# Altium schematic symbol library MS-Electronic.SchLib: 368 symbols (part 4 of 4)
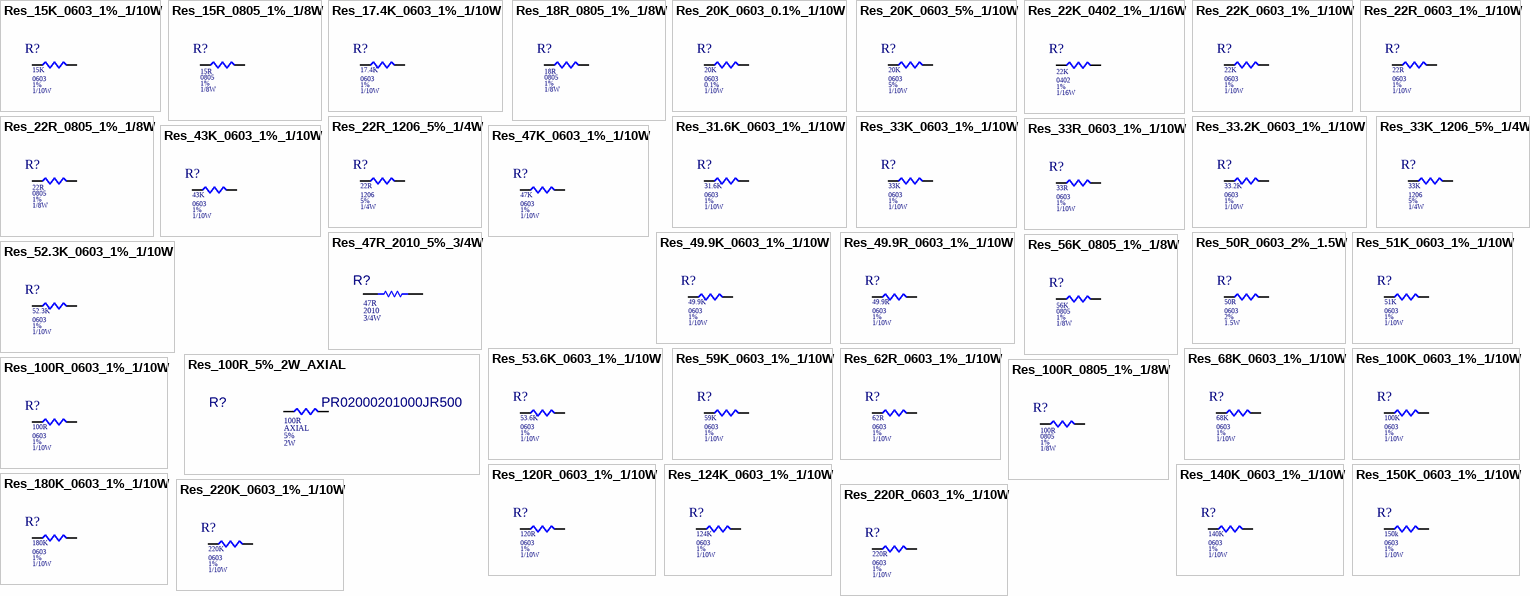
[diagram p14: symbols Res_15K_0603_1%_1/10W to Res_220R_0603_1%_1/10W]

## Res_20K_0603_0.1%_1/10W
designator R?, comment value 20K  Power: 1/10W  Pakage: 0603  Tolerance: 0.1%  (hidden comment: RT0603BRD0720KL)
RES SMD 20K OHM 0.1% 1/10W 0603; ComponentLink1Description: DIGIKEY; ComponentLink1URL: https://www.digikey.bg/en/products/detail/yageo/RT0603BRD0720KL/1072350?s=N4IgTCBcDaIEoBUAMA2JBmAQnAIkg7GEgNIAyIAugL5A
footprint RESC1608X05N (Chip Resistor, 2-Leads, Body 1.60x0.80mm (0603))
pins: 1, 2

## Res_20K_0603_5%_1/10W
designator R?, comment value 20K  Power: 1/10W  Package: 0603  Tolerance: 5%  (hidden comment: CRCW060320K0JNEAC)
RES 20K OHM 5% 1/10W 0603; ComponentLink2Description: CXT; ComponentLink2URL: https://linhkien.cxtvn.com/5973-dien-tro-0603-1-thong-so-tu-1k-den-91k.html; ComponentLink3Description: DIGIKEY; ComponentLink3URL: https://www.digikey.bg/en/products/detail/vishay-dale/CRCW060320K0JNEAC/7925426?s=N4IgTCBcDaIMICU4HUAMA2VBmMqDSqAUgHICiAgnCALoC%2BQA
footprint RESC1608X05N (Chip Resistor, 2-Leads, Body 1.60x0.80mm (0603))
pins: 1, 2

## Res_22K_0402_1%_1/16W
designator R?, comment value 22K  Power: 1/16W  Tolerance: 1%  Pakage: 0402  (hidden comment: RC0402FR-0722KL)
RES 22K OHM 1% 1/16W 0402; ComponentLink1Description: CXT; ComponentLink1URL: https://linhkien.cxtvn.com/7738-dien-tro-0402-1-thong-so-tu-1k-den-91k.html; ComponentLink2Description: DIGIKEY; ComponentLink2URL: https://www.digikey.bg/en/products/detail/yageo/RC0402FR-0722KL/726561?s=N4IgTCBcDaIEoGEAMAWJYBicC0SDsYYA0gDIgC6AvkA
footprint RES_0402
pins: 1, 2

## Res_22K_0603_1%_1/10W
designator R?, comment value 22K  Power: 1/10W  Package: 0603  Tolerance: 1%  (hidden comment: RK73H1JTTD2202F)
RES 22K OHM 1% 1/10W 0603; ComponentLink2Description: CXT; ComponentLink2URL: https://linhkien.cxtvn.com/3650-dien-tro-0603-1-thong-so-tu-1k-den-91k.html; ComponentLink3Description: DIGIKEY; ComponentLink3URL: https://www.digikey.bg/en/products/detail/koa-speer-electronics-inc/RK73H1JTTD2202F/9844886
footprint RESC1608X05N (Chip Resistor, 2-Leads, Body 1.60x0.80mm (0603))
pins: 1, 2

## Res_22R_0603_1%_1/10W
designator R?, comment value 22R  Power: 1/10W  Pakage: 0603  Tolerance: 1%  (hidden comment: RMCF0603FT22R0)
RES 22 OHM 1% 1/10W 0603; ComponentLink1Description: CXT; ComponentLink1URL: https://linhkien.cxtvn.com/4435-dien-tro-0603-1-thong-so-tu-0r-den-910r.html; ComponentLink2Description: DIGIKEY; ComponentLink2URL: https://www.digikey.bg/en/products/detail/stackpole-electronics-inc/RMCF0603FT22R0/1760726
footprint RESC1608X05N (Chip Resistor, 2-Leads, Body 1.60x0.80mm (0603))
pins: 1, 2

## Res_22R_0805_1%_1/8W
designator R?, comment value 22R  Tolerance: 1%  Power: 1/8W  Package: 0805  (hidden comment: RMCF0805FT22R0)
RES 22 OHM 1% 1/8W 0805; ComponentLink1Description: BLK; ComponentLink1URL: https://banlinhkien.com/tro-0805-1-22r-50c-p20821304.html; ComponentLink2Description: DIGIKEY; ComponentLink2URL: https://www.digikey.com/en/products/detail/stackpole-electronics-inc/RMCF0805FT22R0/1712862
footprint Res_0805
pins: 1, 2

## Res_22R_1206_5%_1/4W
designator R?, comment value 22R  Power: 1/4W  Pakage: 1206  Tolerance: 5%  (hidden comment: RC1206JR-0722RL)
RES 22 OHM 5% 1/4W 1206; ComponentLink1Description: CXT; ComponentLink1URL: https://linhkien.cxtvn.com/4214-dien-tro-1206-1-thong-so-tu-0r-den-910r.html; ComponentLink2Description: DIGIKEY; ComponentLink2URL: https://www.digikey.bg/en/products/detail/yageo/RC1206JR-0722RL/729253
footprint Res_1206
pins: 1, 2

## Res_31.6K_0603_1%_1/10W
designator R?, comment value 31.6K  Power: 1/10W  Package: 0603  Tolerance: 1%  (hidden comment: RMCF0603FT31K6)
RES 31.6K OHM 1% 1/10W 0603; ComponentLink1Description: CXT; ComponentLink1URL: https://linhkien.cxtvn.com/6107-dien-tro-0603-1-thong-so-tu-1k-den-91k.html; ComponentLink2Description: DIGIKEY; ComponentLink2URL: https://www.digikey.bg/en/products/detail/yageo/RC0603FR-07560RL/727304
footprint RESC1608X05N (Chip Resistor, 2-Leads, Body 1.60x0.80mm (0603))
pins: 1, 2

## Res_33.2K_0603_1%_1/10W
designator R?, comment value 33.2K  Power: 1/10W  Pakage: 0603  Tolerance: 1%  (hidden comment: RC0603FR-1333K2L)
RES 33.2K OHM 1% 1/10W 0603; ComponentLink1Description: CXT; ComponentLink1URL: https://linhkien.cxtvn.com/4794-dien-tro-0603-1-thong-so-tu-1k-den-91k.html; ComponentLink2Description: DIGIKEY; ComponentLink2URL: https://www.digikey.bg/en/products/detail/yageo/RC0603FR-1333K2L/14286664
footprint RESC1608X05N (Chip Resistor, 2-Leads, Body 1.60x0.80mm (0603))
pins: 1, 2

## Res_33K_0603_1%_1/10W
designator R?, comment value 33K  Power: 1/10W  Package: 0603  Tolerance: 1%  (hidden comment: RC0603FR-0733KL)
RES 33K OHM 1% 1/10W 0603; ComponentLink1Description: CXT; ComponentLink1URL: https://linhkien.cxtvn.com/8763-dien-tro-0603-1-thong-so-tu-1k-den-91k.html; ComponentLink2Description: DIGIKEY; ComponentLink2URL: https://www.digikey.com/en/products/detail/yageo/RC0603FR-0733KL/727159
footprint RESC1608X05N (Chip Resistor, 2-Leads, Body 1.60x0.80mm (0603))
pins: 1, 2

## Res_33K_1206_5%_1/4W
designator R?, comment value 33K  Power: 1/4W  Pakage: 1206  Tolerance: 5%  (hidden comment: RC1206JR-0733KL)
RES 33K OHM 5% 1/4W 1206; ComponentLink1Description: BLK; ComponentLink1URL: https://banlinhkien.com/tro-1206-5-33k-50c-p6650177.html; ComponentLink2Description: DIGIKEY; ComponentLink2URL: https://www.digikey.bg/en/products/detail/yageo/RC1206JR-0733KL/729282
footprint Res_1206
pins: 1, 2

## Res_33R_0603_1%_1/10W
designator R?, comment value 33R  Power: 1/10W  Package: 0603  Tolerance: 1%  (hidden comment: 0603WAF330JT5E)
RES 33 OHM 1% 1/10W 0603; ComponentLink1Description: CXT; ComponentLink1URL: https://linhkien.cxtvn.com/5969-dien-tro-0603-1-thong-so-tu-0r-den-910r.html; ComponentLink2Description: DIGIKEY; ComponentLink2URL: https://www.mouser.vn/ProductDetail/Royalohm/0603WAF330JT5E?qs=e8oIoAS2J1RitKiKgULsBA%3D%3D
footprint RESC1608X05N (Chip Resistor, 2-Leads, Body 1.60x0.80mm (0603))
pins: 1, 2

## Res_43K_0603_1%_1/10W
designator R?, comment value 43K  Power: 1/10W  Pakage: 0603  Tolerance: 1%  (hidden comment: RC0603FR-0743KL)
RES 43K OHM 1% 1/10W 0603; ComponentLink1Description: CXT; ComponentLink1URL: https://linhkien.cxtvn.com/11304-dien-tro-0603-1-thong-so-tu-1k-den-91k.html; ComponentLink2Description: DIGIKEY; ComponentLink2URL: https://www.digikey.com/en/products/detail/yageo/RC0603FR-0743KL/727233
footprint RESC1608X05N (Chip Resistor, 2-Leads, Body 1.60x0.80mm (0603))
pins: 1, 2

## Res_47K_0603_1%_1/10W
designator R?, comment value 47K  Power: 1/10W  Pakage: 0603  Tolerance: 1%  (hidden comment: RC0603FR-0747KL)
RES 47K OHM 1% 1/10W 0603; ComponentLink1Description: CXT; ComponentLink1URL: https://linhkien.cxtvn.com/4437-dien-tro-0603-1-thong-so-tu-1k-den-91k.html; ComponentLink2Description: DIGIKEY; ComponentLink2URL: https://www.digikey.com/en/products/detail/yageo/RC0603FR-0747KL/727253
footprint RESC1608X05N (Chip Resistor, 2-Leads, Body 1.60x0.80mm (0603))
pins: 1, 2

## Res_47R_2010_5%_3/4W
designator R?, comment Parameter 3: 3/4W  Parameter 2: 2010  Parameter 1: 47R  (hidden comment: MR20X470 JTL)
RES SMD 47 OHM 5% 3/4W 2010; Manufacturer: Panasonic Electronic Components; Part Code: S1100-000178; Description SEL: RES 47 OHM 5% 3/4W 2010; Point: 2; Value: 47Ohm; Part Number: MR20X470 JTL; Footprint Type: SMD
footprint RESC5025X70N
pins: 1, 2

## Res_49.9K_0603_1%_1/10W
designator R?, comment value 49.9K  Power: 1/10W  Package: 0603  Tolerance: 1%  (hidden comment: RMCF0603FT49K9)
RES 49.9K OHM 1% 1/10W 0603; ComponentLink1Description: CXT; ComponentLink1URL: https://linhkien.cxtvn.com/4499-dien-tro-0603-1-thong-so-tu-1k-den-91k.html; ComponentLink2Description: DIGIKEY; ComponentLink2URL: https://www.digikey.com/en/products/detail/stackpole-electronics-inc/RMCF0603FT49K9/1760907
footprint RESC1608X05N (Chip Resistor, 2-Leads, Body 1.60x0.80mm (0603))
pins: 1, 2

## Res_49.9R_0603_1%_1/10W
designator R?, comment value 49.9R  Power: 1/10W  Package: 0603  Tolerance: 1%  (hidden comment: RC0603FR-0749R9L)
RES 49.9 OHM 1% 1/10W 0603; ComponentLink1Description: CXT; ComponentLink1URL: https://linhkien.cxtvn.com/2395-dien-tro-0603-1-thong-so-tu-0r-den-910r.html; ComponentLink2Description: DIGIKEY; ComponentLink2URL: https://www.digikey.com/en/products/detail/yageo/RC0603FR-0749R9L/727264
footprint RESC1608X05N (Chip Resistor, 2-Leads, Body 1.60x0.80mm (0603))
pins: 1, 2

## Res_50R_0603_2%_1.5W
designator R?, comment value 50R  Power: 1.5W  Pakage: 0603  Tolerance: 2%  (hidden comment: RCP0603W50R0GEB)
RES SMD 50 OHM 2% 1.5W 0603; ComponentLink1Description: TGIC; ComponentLink1URL: https://www.thegioiic.com/dien-tro-50-ohm-0603-5-; ComponentLink2Description: DIGIKEY; ComponentLink2URL: https://www.digikey.com/en/products/detail/vishay-dale/RCP0603W50R0GEB/5481869
footprint RESC1608X05N (Chip Resistor, 2-Leads, Body 1.60x0.80mm (0603))
pins: 1, 2

## Res_51K_0603_1%_1/10W
designator R?, comment value 51K  Power: 1/10W  Package: 0603  Tolerance: 1%  (hidden comment: RC0603FR-0751KL)
RES 51K OHM 1% 1/10W 0603; ComponentLink2Description: CXT; ComponentLink2URL: https://linhkien.cxtvn.com/7715-dien-tro-0603-1-thong-so-tu-1k-den-91k.html; ComponentLink3Description: DIGIKEY; ComponentLink3URL: https://www.digikey.bg/en/products/detail/yageo/RC0603FR-0751KL/727282
footprint RESC1608X05N (Chip Resistor, 2-Leads, Body 1.60x0.80mm (0603))
pins: 1, 2

## Res_52.3K_0603_1%_1/10W
designator R?, comment value 52.3K  Power: 1/10W  Package: 0603  Tolerance: 1%  (hidden comment: RMCF0603FT52K3)
RES 52.3K OHM 1% 1/10W 0603; ComponentLink1Description: CXT; ComponentLink1URL: https://linhkien.cxtvn.com/4828-dien-tro-0603-1-thong-so-tu-1k-den-91k.html; ComponentLink2Description: DIGIKEY; ComponentLink2URL: https://www.digikey.com/en/products/detail/stackpole-electronics-inc/RMCF0603FT52K3/1714113
footprint RESC1608X05N (Chip Resistor, 2-Leads, Body 1.60x0.80mm (0603))
pins: 1, 2

## Res_53.6K_0603_1%_1/10W
designator R?, comment value 53.6K  Power: 1/10W  Package: 0603  Tolerance: 1%  (hidden comment: RMCF0603FT53K6)
RES 53.6K OHM 1% 1/10W 0603; ComponentLink2Description: New link 1; ComponentLink2URL: https://www.digikey.com/en/products/detail/stackpole-electronics-inc/RMCF0603FT53K6/1760885
footprint RESC1608X05N (Chip Resistor, 2-Leads, Body 1.60x0.80mm (0603))
pins: 1, 2

## Res_56K_0805_1%_1/8W
designator R?, comment value 56K  Tolerance: 1%  Power: 1/8W  Package: 0805  (hidden comment: CRCW080556K0FKEA)
RES SMD 56K OHM 1% 1/8W 0805; ComponentLink1Description: CXT; ComponentLink1URL: https://linhkien.cxtvn.com/5956-dien-tro-0805-1-thong-so-tu-1k-den-91k.html; ComponentLink2Description: DIGIKEY; ComponentLink2URL: https://www.digikey.bg/en/products/detail/vishay-dale/CRCW080556K0FKEA/1175836
footprint Res_0805
pins: 1, 2

## Res_59K_0603_1%_1/10W
designator R?, comment value 59K  Power: 1/10W  Package: 0603  Tolerance: 1%  (hidden comment: RMCF0603FT59K0)
RES 59K OHM 1% 1/10W 0603; ComponentLink2Description: CXT; ComponentLink2URL: https://linhkien.cxtvn.com/6097-dien-tro-0603-1-thong-so-tu-1k-den-91k.html; ComponentLink3Description: DIGIKEY; ComponentLink3URL: https://www.digikey.com/en/products/detail/stackpole-electronics-inc/RMCF0603FT59K0/1760782
footprint RESC1608X05N (Chip Resistor, 2-Leads, Body 1.60x0.80mm (0603))
pins: 1, 2

## Res_62R_0603_1%_1/10W
designator R?, comment value 62R  Power: 1/10W  Pakage: 0603  Tolerance: 1%  (hidden comment: RMCF0603FT62R0)
RES 62 OHM 1% 1/10W 0603; ComponentLink1Description: LKCL; ComponentLink1URL: https://linhkienchatluong.vn/dien-tro-dan-0603-116w-1/dien-tro-dan-0603-62r-1-50c_sp836_ct8416.aspx; ComponentLink2Description: DIGIKEY; ComponentLink2URL: https://www.digikey.bg/en/products/detail/stackpole-electronics-inc/RMCF0603FT62R0/1760778
footprint RESC1608X05N (Chip Resistor, 2-Leads, Body 1.60x0.80mm (0603))
pins: 1, 2

## Res_68K_0603_1%_1/10W
designator R?, comment value 68K  Power: 1/10W  Pakage: 0603  Tolerance: 1%  (hidden comment: RMCF0603FT68K0)
RES 68K OHM 1% 1/10W 0603; ComponentLink1Description: LKD; ComponentLink1URL: https://banlinhkiendientu.com/dien-tro-dan-0603-68k-1-day-50c/; ComponentLink2Description: DIGIKEY; ComponentLink2URL: https://www.digikey.com/en/products/detail/stackpole-electronics-inc/RMCF0603FT68K0/1760882
footprint RESC1608X05N (Chip Resistor, 2-Leads, Body 1.60x0.80mm (0603))
pins: 1, 2

## Res_100K_0603_1%_1/10W
designator R?, comment value 100K  Power: 1/10W  Package: 0603  Tolerance: 1%  (hidden comment: 0603WAF1003T5E)
RES 100K OHM 1% 1/10W 0603; ComponentLink1Description: CXT; ComponentLink1URL: https://linhkien.cxtvn.com/1423-dien-tro-0603-1-thong-so-tu-100k-den-910k.html; ComponentLink2Description: MOUSER; ComponentLink2URL: https://www.mouser.vn/ProductDetail/Royalohm/0603WAF1003T5E?qs=e8oIoAS2J1SaaY9MznAX1w%3D%3D
footprint RESC1608X05N (Chip Resistor, 2-Leads, Body 1.60x0.80mm (0603))
pins: 1, 2

## Res_100R_5%_2W_AXIAL
designator R?, comment PR02000201000JR500  value 100R  Power: 2W  Tolerance: 5%  Package: AXIAL
RES 100 OHM 5% 2W AXIAL; Manufacturer: VISHAY; Part Code: S1100-000186; Description SEL: RES 100 OHM 2W 5% AXIAL; Point: 2; Part Number: PR02000201000JR500; Footprint Type: TH; ComponentLink1Description: DIGIKEY; ComponentLink1URL: https://www.digikey.com/en/products/detail/vishay-beyschlag-draloric-bc-components/PR02000201000JR500/596105
footprint RES_100R_5%_2W_AXIAL
pins: 1, 2

## Res_100R_0603_1%_1/10W
designator R?, comment value 100R  Power: 1/10W  Package: 0603  Tolerance: 1%  (hidden comment: RC0603FR-07100RL)
RES 100 OHM 1% 1/10W 0603; ComponentLink1Description: CXT; ComponentLink1URL: https://linhkien.cxtvn.com/2393-dien-tro-0603-1-thong-so-tu-0r-den-910r.html; ComponentLink2Description: DIGIKEY; ComponentLink2URL: https://www.digikey.com/en/products/detail/yageo/RC0603FR-07100RL/726888
footprint RESC1608X05N (Chip Resistor, 2-Leads, Body 1.60x0.80mm (0603))
pins: 1, 2

## Res_100R_0805_1%_1/8W
designator R?, comment value 100R  Tolerance: 1%  Power: 1/8W  Package: 0805  (hidden comment: WR08X1000FTL)
RES 100 OHM 1% 1/8W 0805; ComponentLink1Description: CXT; ComponentLink1URL: https://linhkien.cxtvn.com/2343-dien-tro-0805-1-thong-so-tu-0r-den-910r.html; ComponentLink2Description: DIGIKEY; ComponentLink2URL: https://www.digikey.bg/en/products/detail/walsin-technology-corporation/WR08X1000FTL/13241877?s=N4IgTCBcDaIOoCUAMAOAGgRidgYgFQBkQBdAXyA
footprint Res_0805
pins: 1, 2

## Res_120R_0603_1%_1/10W
designator R?, comment value 120R  Power: 1/10W  Package: 0603  Tolerance: 1%  (hidden comment: RC0603FR-07120RL)
RES 120 OHM 1% 1/10W 0603; ComponentLink1Description: CXT; ComponentLink1URL: https://linhkien.cxtvn.com/3447-dien-tro-0603-1-thong-so-tu-0r-den-910r.html; ComponentLink2Description: DIGIKEY; ComponentLink2URL: https://www.digikey.com/en/products/detail/yageo/RC0603FR-07120RL/726920?s=N4IgTCBcDaIEoGEAMA2JBmAYnAtEg7AIxhJwAyIAugL5A
footprint RESC1608X05N (Chip Resistor, 2-Leads, Body 1.60x0.80mm (0603))
pins: 1, 2

## Res_124K_0603_1%_1/10W
designator R?, comment value 124K  Power: 1/10W  Pakage: 0603  Tolerance: 1%  (hidden comment: RC0603FR-07124KL)
RES 124K OHM 1% 1/10W 0603; ComponentLink2Description: DIGIKEY; ComponentLink2URL: https://www.digikey.bg/en/products/detail/yageo/RC0603FR-07124KL/726925
footprint RESC1608X05N (Chip Resistor, 2-Leads, Body 1.60x0.80mm (0603))
pins: 1, 2

## Res_140K_0603_1%_1/10W
designator R?, comment value 140K  Power: 1/10W  Pakage: 0603  Tolerance: 1%  (hidden comment: RC0603FR-07140KL)
RES 140K OHM 1% 1/10W 0603; ComponentLink1Description: CXT; ComponentLink2Description: DIGIKEY; ComponentLink2URL: https://www.digikey.bg/en/products/detail/yageo/RC0603FR-07140KL/726947
footprint RESC1608X05N (Chip Resistor, 2-Leads, Body 1.60x0.80mm (0603))
pins: 1, 2

## Res_150K_0603_1%_1/10W
designator R?, comment value 150k  Power: 1/10W  Pakage: 0603  Tolerance: 1%  (hidden comment: RMCF0603FT150K)
RES 150K OHM 1% 1/10W 0603; ComponentLink1Description: CXT; ComponentLink1URL: https://linhkien.cxtvn.com/9710-dien-tro-0603-1-thong-so-tu-100k-den-910k.html; ComponentLink2Description: DIGIKEY; ComponentLink2URL: https://www.digikey.com/en/products/detail/stackpole-electronics-inc/RMCF0603FT150K/1761318
footprint RESC1608X05N (Chip Resistor, 2-Leads, Body 1.60x0.80mm (0603))
pins: 1, 2

## Res_180K_0603_1%_1/10W
designator R?, comment value 180K  Power: 1/10W  Pakage: 0603  Tolerance: 1%  (hidden comment: RC0603FR-10180KL)
RES 180K OHM 1% 1/10W 0603; ComponentLink1Description: CXT; ComponentLink1URL: https://linhkien.cxtvn.com/5273-dien-tro-0603-1-thong-so-tu-100k-den-910k.html; ComponentLink2Description: DIGIKEY; ComponentLink2URL: https://www.digikey.bg/en/products/detail/yageo/RC0603FR-10180KL/14008354
footprint RESC1608X05N (Chip Resistor, 2-Leads, Body 1.60x0.80mm (0603))
pins: 1, 2

## Res_220K_0603_1%_1/10W
designator R?, comment value 220K  Power: 1/10W  Pakage: 0603  Tolerance: 1%  (hidden comment: MCT06030C2203FP500)
RES 220K OHM 1% 1/10W 0603; ComponentLink1Description: CXT; ComponentLink1URL: https://linhkienchatluong.vn/dien-tro-dan-0603-116w-1/dien-tro-dan-0603-220k-1-50c_sp836_ct8914.aspx; ComponentLink2Description: DIGIKEY; ComponentLink2URL: https://www.digikey.bg/en/products/detail/vishay-beyschlag-draloric-bc-components/MCT06030C2203FP500/2800760?s=N4IgTCBcDaILIGEAqAGAbCgzChYxYDEAFAVhRRAF0BfIA
footprint RESC1608X05N (Chip Resistor, 2-Leads, Body 1.60x0.80mm (0603))
pins: 1, 2

## Res_220R_0603_1%_1/10W
designator R?, comment value 220R  Power: 1/10W  Package: 0603  Tolerance: 1%  (hidden comment: RMCF0603FT220R)
RES 220 OHM 1% 1/10W 0603; ComponentLink1Description: CXT; ComponentLink1URL: https://linhkien.cxtvn.com/2885-dien-tro-0603-1-thong-so-tu-0r-den-910r.html; ComponentLink2Description: DIGIKEY; ComponentLink2URL: https://www.digikey.bg/en/products/detail/stackpole-electronics-inc/RMCF0603FT220R/1760809
footprint RESC1608X05N (Chip Resistor, 2-Leads, Body 1.60x0.80mm (0603))
pins: 1, 2

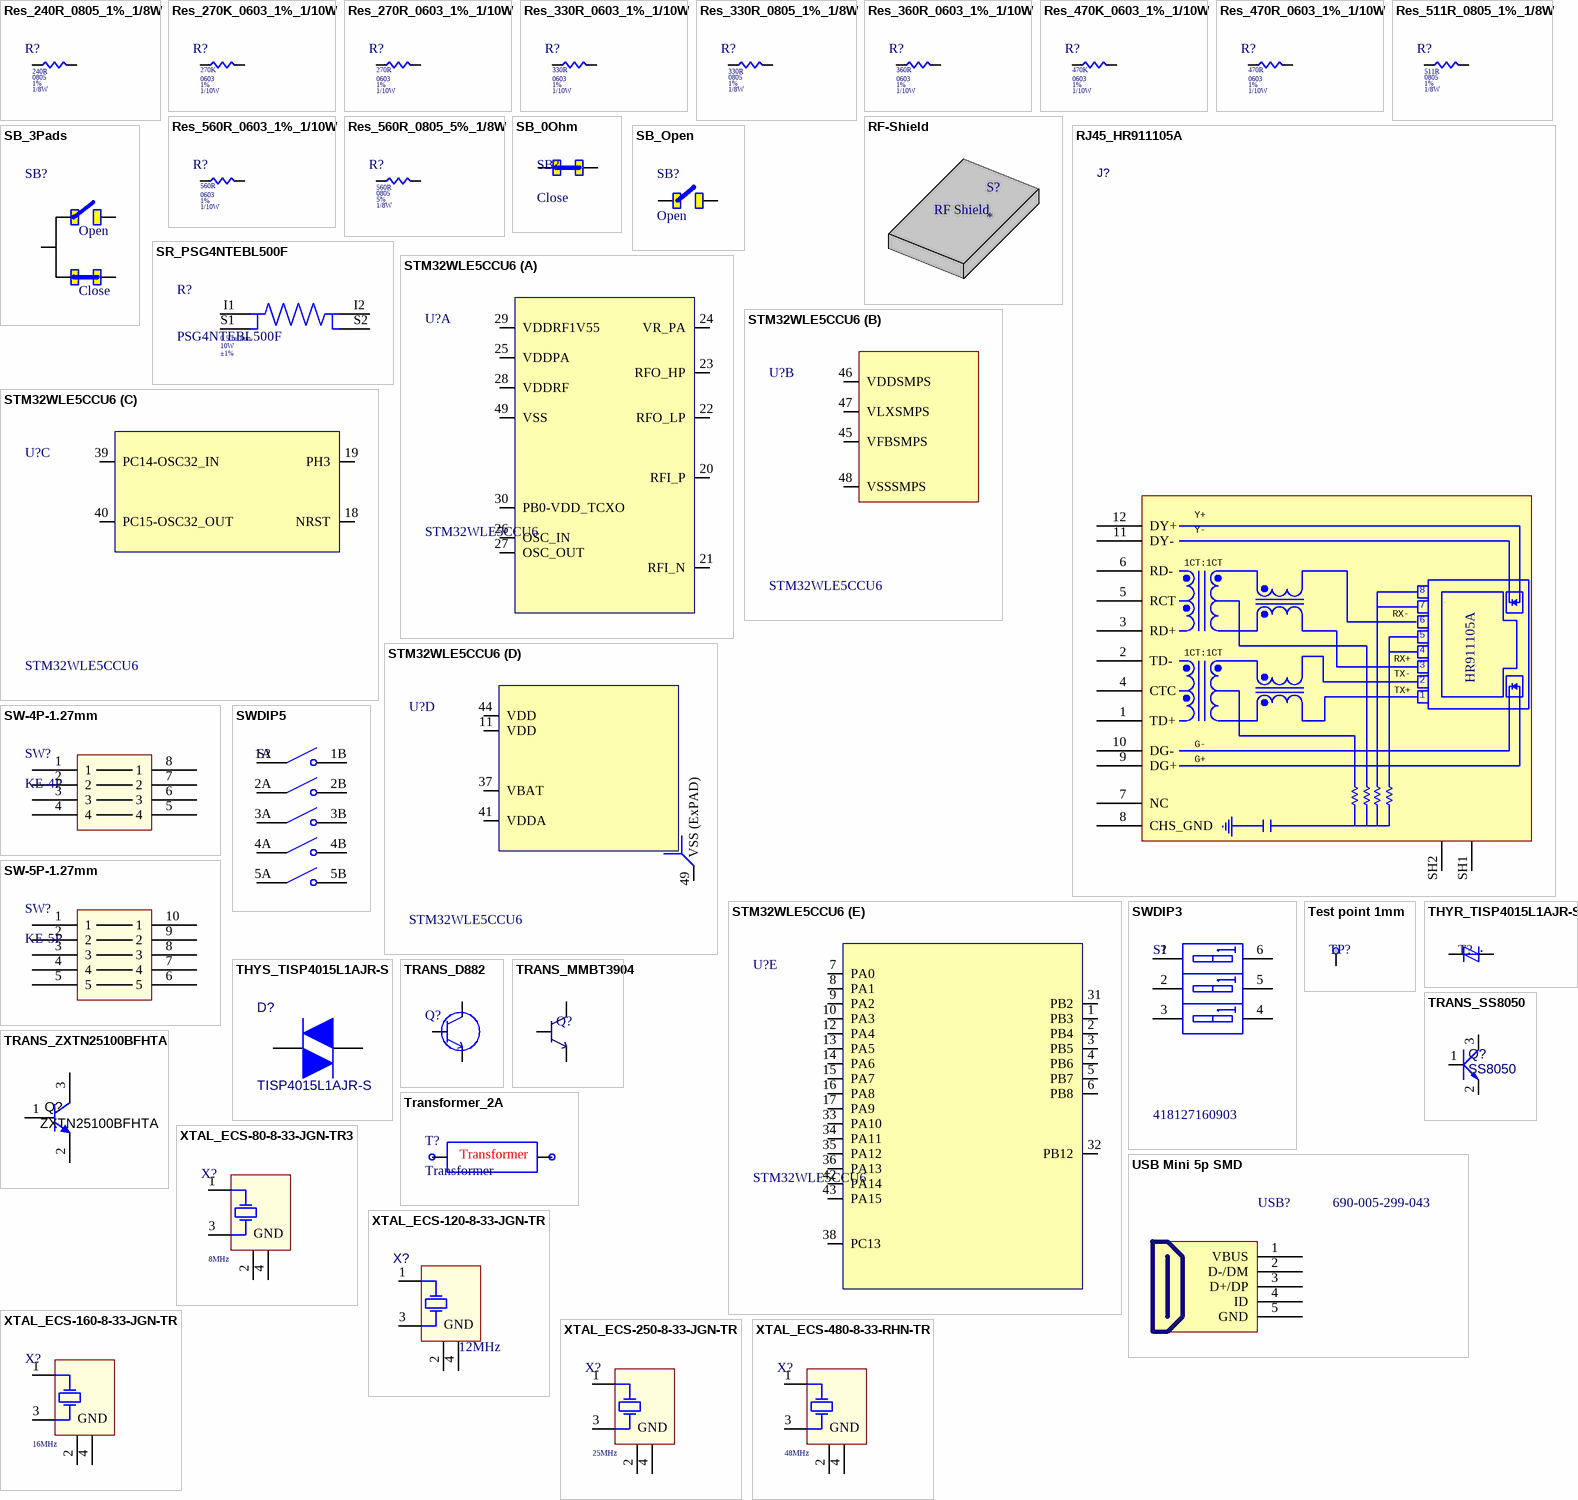
[diagram p10: symbols Res_240R_0805_1%_1/8W to XTAL_ECS-480-8-33-RHN-TR]

## Res_240R_0805_1%_1/8W
designator R?, comment value 240R  Tolerance: 1%  Power: 1/8W  Package: 0805  (hidden comment: RT0805FRE07240RL)
RES SMD 240 OHM 1% 1/8W 0805; ComponentLink1Description: LKCL; ComponentLink1URL: https://linhkienchatluong.vn/dien-tro-dan-0805-110w-1/dien-tro-dan-0805-240r-1-50c_sp837_ct8455.aspx; ComponentLink2Description: DIGIKEY; ComponentLink2URL: https://www.digikey.bg/en/products/detail/yageo/RT0805FRE07240RL/1079094?s=N4IgTCBcDaIEoBUAMAOJBWAYnAokg7GACxJwAyIAugL5A
footprint Res_0805
pins: 1, 2

## Res_270K_0603_1%_1/10W
designator R?, comment value 270K  Power: 1/10W  Package: 0603  Tolerance: 1%  (hidden comment: RC0603FR-13270KL)
RES 270K OHM 1% 1/10W 0603; ComponentLink1Description: CXT; ComponentLink1URL: https://linhkien.cxtvn.com/2314-dien-tro-270k-0603-1-50c.html; ComponentLink2Description: DIGIKEY; ComponentLink2URL: https://www.digikey.com/en/products/detail/yageo/RC0603FR-13270KL/14286658
footprint RESC1608X05N (Chip Resistor, 2-Leads, Body 1.60x0.80mm (0603))
pins: 1, 2

## Res_270R_0603_1%_1/10W
designator R?, comment value 270R  Power: 1/10W  Package: 0603  Tolerance: 1%  (hidden comment: RC0603FR-07270RL)
RES 270 OHM 1% 1/10W 0603; ComponentLink1Description: CXT; ComponentLink1URL: https://linhkien.cxtvn.com/10216-dien-tro-0603-1-thong-so-tu-0r-den-910r.html; ComponentLink2Description: DIGIKEY; ComponentLink2URL: https://www.digikey.bg/en/products/detail/yageo/RC0603FR-07270RL/727103
footprint RESC1608X05N (Chip Resistor, 2-Leads, Body 1.60x0.80mm (0603))
pins: 1, 2

## Res_330R_0603_1%_1/10W
designator R?, comment value 330R  Power: 1/10W  Package: 0603  Tolerance: 1%  (hidden comment: CRG0603F330R)
RES SMD 330 OHM 1% 1/10W 0603; ComponentLink1Description: CXT; ComponentLink1URL: https://linhkien.cxtvn.com/1425-dien-tro-0603-1-thong-so-tu-0r-den-910r.html; ComponentLink2Description: DIGIKEY; ComponentLink2URL: https://www.digikey.com/en/products/detail/te-connectivity-passive-product/CRG0603F330R/2380765
footprint RESC1608X05N (Chip Resistor, 2-Leads, Body 1.60x0.80mm (0603))
pins: 1, 2

## Res_330R_0805_1%_1/8W
designator R?, comment value 330R  Tolerance: 1%  Power: 1/8W  Package: 0805  (hidden comment: RMCF0805FT330R)
RES 330 OHM 1% 1/8W 0805; ComponentLink1Description: CXT; ComponentLink1URL: https://linhkien.cxtvn.com/2743-dien-tro-0805-1-thong-so-tu-0r-den-910r.html; ComponentLink2Description: DIGIKEY; ComponentLink2URL: https://www.digikey.bg/en/products/detail/stackpole-electronics-inc/RMCF0805FT330R/1760484
footprint Res_0805
pins: 1, 2

## Res_360R_0603_1%_1/10W
designator R?, comment value 360R  Power: 1/10W  Package: 0603  Tolerance: 1%  (hidden comment: RC0603FR-07360RL)
RES 360 OHM 1% 1/10W 0603; ComponentLink1Description: CXT; ComponentLink1URL: https://linhkien.cxtvn.com/7299-dien-tro-0603-1-thong-so-tu-0r-den-910r.html; ComponentLink2Description: DIGIKEY; ComponentLink2URL: https://www.digikey.com/en/products/detail/yageo/RC0603FR-07360RL/727182?s=N4IgTCBcDaIEoGEAMA2JBmAYnAtEg7OmnADIgC6AvkA
footprint RESC1608X05N (Chip Resistor, 2-Leads, Body 1.60x0.80mm (0603))
pins: 1, 2

## Res_470K_0603_1%_1/10W
designator R?, comment value 470K  Power: 1/10W  Pakage: 0603  Tolerance: 1%  (hidden comment: RMCF0603FT470K)
RES 470K OHM 1% 1/10W 0603; ComponentLink1Description: CXT; ComponentLink1URL: https://linhkien.cxtvn.com/4438-dien-tro-0603-1-thong-so-tu-100k-den-910k.html; ComponentLink2Description: DIGIKEY; ComponentLink2URL: https://www.digikey.com/en/products/detail/stackpole-electronics-inc/RMCF0603FT470K/1761140
footprint RESC1608X05N (Chip Resistor, 2-Leads, Body 1.60x0.80mm (0603))
pins: 1, 2

## Res_470R_0603_1%_1/10W
designator R?, comment value 470R  Power: 1/10W  Pakage: 0603  Tolerance: 1%  (hidden comment: RC0603FR-13470RL)
RES 470 OHM 1% 1/10W 0603; ComponentLink1Description: CXT; ComponentLink1URL: https://linhkien.cxtvn.com/4505-dien-tro-0603-1-thong-so-tu-0r-den-910r.html; ComponentLink2Description: DIGIKEY; ComponentLink2URL: https://www.digikey.com/en/products/detail/yageo/RC0603FR-13470RL/13694476
footprint RESC1608X05N (Chip Resistor, 2-Leads, Body 1.60x0.80mm (0603))
pins: 1, 2

## Res_511R_0805_1%_1/8W
designator R?, comment value 511R  Tolerance: 1%  Power: 1/8W  Package: 0805  (hidden comment: RC0805FR-07511RL)
RES 511 OHM 1% 1/8W 0805; ComponentLink2Description: DIGIKEY; ComponentLink2URL: https://www.digikey.bg/en/products/detail/yageo/RC0805FR-07511RL/728018
footprint Res_0805
pins: 1, 2

## Res_560R_0603_1%_1/10W
designator R?, comment value 560R  Power: 1/10W  Package: 0603  Tolerance: 1%  (hidden comment: RC0603FR-07560RL)
RES 560 OHM 1% 1/10W 0603; ComponentLink1Description: CXT; ComponentLink1URL: https://linhkien.cxtvn.com/6651-dien-tro-0603-1-thong-so-tu-0r-den-910r.html; ComponentLink2Description: DIGIKEY; ComponentLink2URL: https://www.digikey.bg/en/products/detail/yageo/RC0603FR-07560RL/727304
footprint RESC1608X05N (Chip Resistor, 2-Leads, Body 1.60x0.80mm (0603))
pins: 1, 2

## Res_560R_0805_5%_1/8W
designator R?, comment value 560R  Tolerance: 5%  Power: 1/8W  Package: 0805  (hidden comment: RC0805JR-07560RL)
RES 560 OHM 5% 1/8W 0805; ComponentLink1Description: CXT; ComponentLink1URL: https://linhkien.cxtvn.com/6479-dien-tro-0805-1-thong-so-tu-0r-den-910r.html; ComponentLink2Description: DIGIKEY; ComponentLink2URL: https://www.digikey.bg/en/products/detail/yageo/RC0805JR-07560RL/728347
footprint Res_0805
pins: 1, 2

## RF-Shield
designator S?  (mechanical)
RF Shield Frame + Cover without apertures; Manufacturer: Masach Tech; Manufacturer_Part_Number: MS409-10
text: RF Shield

## RJ45_HR911105A
designator J?, comment HR911105A  (value not drawn)
RJ45 12 1 Green - Yellow Through Hole Ethernet Connectors/Modular Connectors (RJ45 RJ11) RoHS; Manufacturer: HANRUN; Manufacturer Part Number: HR911105A; LCSC Part Number: C12074; Package: Through Hole; Assembly Type: Hand Soldering; ComponentLink1Description: BLK; ComponentLink1URL: https://banlinhkien.com/hr911105a-rj45-p6652876.html
footprint RJ45-TH_HR911105A
pins: 1 TD+, 2 TD-, 3 RD+, 4 CTC, 5 RCT, 6 RD-, 7 NC, 8 CHS_GND (power), 9 DG+, 10 DG-, 11 DY-, 12 DY+, SH1, SH2
text: Y+; Y-; 1CT:1CT; RX-; RX+; TX-; TX+; G-; G+

## SB_0Ohm
designator SB?, comment Close
Solder Bridge 0R [0402] (Populated with 0 Ohm); Manufacturer: Vishay / Dale; Manufacturer_Part_Number: RCS04020000Z0ED; VALUE: 0; Revision: July-2002: Re-released for DXP Platform.
footprint SB_0402 (Souder Bridge [0402])
signal-integrity model Guessed Model (IC Model Details Guessed by Setup Helper)
pins: 1, 2

## SB_3Pads
designator SB?  (value not drawn)
Solder Bridge
footprint SB3Pads_0402 (Solder Bridge 0 Ohm (0402))
signal-integrity model Guessed Model (IC Model Details Guessed by Setup Helper)
pins: 1, 2, 3
text: Open; Close

## SB_Open
designator SB?, comment Open
Solder Bridge Open [0402] (Unpopulated); Revision: July-2002: Re-released for DXP Platform.
footprint SB_0402 (Souder Bridge [0402])
signal-integrity model Guessed Model (IC Model Details Guessed by Setup Helper)
pins: 1, 2

## SR_PSG4NTEBL500F
designator R?, comment PSG4NTEBL500F  value 0.5 mOhm  Tolerance: ±1%  Power (Watts): 10W
RES 500 UOHM 1% 10W NONSTANDARD; Manufacturer: KOA Speer Electronics, Inc.; Part Number: PSG4NTEBL500F; Dimension: 6.90mm x 6.60mm; Footprint type: SMD; ComponentLink1Description: DIGIKEY; ComponentLink1URL: https://www.digikey.com/en/products/detail/koa-speer-electronics-inc/PSG4NTEBL500F/10396744?s=N4IgTCBcDaIAoGUDiAWAcgFQKICEAyArAAxEBiIAugL5A
footprint SR_PSG4NTEBL500F
pins: I1, I2, S1, S2

## STM32WLE5CCU6
designator U?
HQDC : Verified April, 25 2019; Manufacturer: STMicroelectronics; Manufacturer_Part_Number: STM32WLxxxx; Sort: MCU; Package: QFN48; ComponentLink1Description: DIGIKEY; ComponentLink1URL: https://www.digikey.bg/en/products/detail/stmicroelectronics/STM32WLE5CCU6/13557445
footprint STM32WLxx_QFN48 (QFN48 7x7x0.55mm pitch 0.5mm)
part A pins: 20 RFI_P, 21 RFI_N, 22 RFO_LP, 23 RFO_HP, 24 VR_PA, 25 VDDPA, 26 OSC_IN, 27 OSC_OUT, 28 VDDRF, 29 VDDRF1V55, 30 PB0-VDD_TCXO, 49 VSS
part B pins: 45 VFBSMPS, 46 VDDSMPS, 47 VLXSMPS, 48 VSSSMPS
part C pins: 18 NRST, 19 PH3, 39 PC14-OSC32_IN, 40 PC15-OSC32_OUT
part D pins: 11 VDD, 37 VBAT, 41 VDDA, 44 VDD, 49 VSS (ExPAD)
part E pins: 1 PB3, 2 PB4, 3 PB5, 4 PB6, 5 PB7, 6 PB8, 7 PA0, 8 PA1, 9 PA2, 10 PA3, 12 PA4, 13 PA5, 14 PA6, 15 PA7, 16 PA8, 17 PA9, 31 PB2, 32 PB12, 33 PA10, 34 PA11, 35 PA12, 36 PA13, 38 PC13, 42 PA14, 43 PA15

## SW-4P-1.27mm
designator SW?, comment KE-4P
KE-4P Switch 4 bit 1.27mm; Voltage: 24V; Current: 25mA; Number Pin: 8; ComponentLink1Description: DTTN; ComponentLink1URL: https://dientutuyetnga.com/products/ke-4p-cong-tac-gat-4-bit-switch-smd-1-27mm
footprint KE-4P
pins: 1, 2, 3, 4, 5 4, 6 3, 7 2, 8 1

## SW-5P-1.27mm
designator SW?, comment KE-5P
KE-5P Switch 5 bit 1.27mm; Voltage: 24V; Current: 25mA; Number Pin: 10; ComponentLink1Description: ICDR; ComponentLink1URL: https://icdayroi.com/ke-1-27mm-dip-switch-5p
footprint KE-5P
pins: 1, 2, 3, 4, 5, 6 5, 7 4, 8 3, 9 2, 10 1

## SWDIP3
designator S?, comment 418127160903
WS-DITV 2.54 mm small compact THT flat actuator with top tape; Manufacturer: Wurth Elektronik; ComponentLink1 Description: Manufacturer; ComponentLink2 Description: Datasheet; Pitch: 2.54mm; Current Rating: 25 mA, 100 mA; Voltage Rating DC: 24 VDC, 50 VDC; Part No.: 418127160903; ComponentLink1URL: https://www.mouser.vn/ProductDetail/Wurth-Elektronik/418127160903?qs=sGAEpiMZZMtFyPk3yBMYYJa7sMIkQyNCaesrhzGWMX0%3D; ComponentLink2URL: http://katalog.we-online.de/em/datasheet/4181271609xx.pdf; Created by: Baojun Chen; ComponentLink1Description: MOUSER; ComponentLink1URL: *
footprint SW-DIP3-1 (03p, 2.54mm Pitch, Horizontal, Box Type, THT, flat Actuator, red, without Tape, Tube)
pins: 1, 2, 3, 4, 5, 6

## SWDIP5
designator S?
WS-DITV 2.54 mm small compact THT flat actuator with top tape; Manufacturer: Wurth Elektronik; Part No.: 418127160905; ComponentLink1 Description: Manufacturer; ComponentLink2 Description: Datasheet; Pole: 05; Created Date: Dec.2015; ComponentLink1URL: https://www.we-online.com/en/components/products/DITV_2_54_COMPACT_THT_WITH_RAISED_ACTUATOR; ComponentLink2URL: http://katalog.we-online.de/em/datasheet/4181271609xx.pdf; Created by: Baojun Chen; ComponentLink1Description: New link; ComponentLink1URL: *
footprint DIP SWITCH 5P
pins: 1A COM1, 1B NO1, 2A COM2, 2B NO2, 3A COM3, 3B NO3, 4A COM4, 4B NO4, 5A COM5, 5B NO5

## Test point 1mm
designator TP?  (value not drawn)  (no BOM)
footprint Test Point
pins: 1 TP

## THYR_TISP4015L1AJR-S
designator T?, comment TISP4015L1AJR-S  (value not drawn)
THYRISTOR 8V 120A DO214AC; Manufacturer: Bourns Inc.; Voltage - Breakover: 15V; Part Number: TISP4015L1AJR-S; Category: Thyristor; Footprint type: SMD; Footprint/Package: DO-214AC; ComponentLink1Description: DIGIKEY; ComponentLink1URL: https://www.digikey.bg/en/products/detail/bourns-inc/TISP4015L1AJR-S/3741895?s=N4IgTCBcDaICoEkDKAFALABgIwFYAyWAggFIBKAtEiALoC%2BQA
footprint THYRISTO-DO-214AC_TISP4015L1AJR-S
pins: 1, 2

## THYS_TISP4015L1AJR-S
designator D?, comment TISP4015L1AJR-S
8V Off-State 120 A Ipp TVS Thyristor DO-214AC, SMA; Manufacturer: Bourns; Description SEL: THYRISTOR 8V 120A DO214AC; Voltage - Breakover: 15V; Current - Peak Pulse: 120A; Current - Hold (Ih): 50mA; Part Number: TISP4015L1AJR-S; Part Code: N/A; ComponentLink1Description: DIGIKEY; ComponentLink1URL: https://www.digikey.bg/en/products/detail/bourns-inc/TISP4015L1AJR-S/3741895?s=N4IgTCBcDaICoEkDKAFALABgIwFYAyWAggFIBKAtEiALoC%2BQA; Voltage - Off State: 8V
footprint THYS_TISP4015L1AJR-S_DO-214AC
pins: 1 R, 2 T

## TRANS_D882
designator Q?, comment D882  (value not drawn)
D882 TRANS NPN 30V 3A SOT-89-3L; Manufacturer: EVVO; ComponentLink1Description: BLK; ComponentLink1URL: https://banlinhkien.com/d882-sot89-trans-npn-3a-30v-smd-5c-p16398866.html; ComponentLink2Description: DIGIKEY; ComponentLink2URL: https://www.digikey.com/en/products/detail/evvo/D882/22482096; Part Number: D882; Sort: NPN; Voltage: 30V; Current: 3A; Package: SOT89
footprint TRANS_NPN_30V_3A_SOT89
pins: 1 (power), 2 (power), 3 (power)

## TRANS_MMBT3904
designator Q?, comment MMBT3904  (value not drawn)
TRANS NPN 40V 0.2A SOT23-3; Manufacturer: Changjiang Electronics Tech (CJ); Current: 200mA; Manufacturer Part Number: MMBT3904; LCSC Part Number: C20526; Package: SOT-23-3; ComponentLink1Description: CXT; ComponentLink1URL: https://linhkien.cxtvn.com/8443-mmbt3904-2n3904-1am-transistor-npn-02a-40v-sot-23-10c.html; ComponentLink2Description: DIGIKEY; ComponentLink2URL: https://www.digikey.com/en/products/detail/diotec-semiconductor/MMBT3904/13163698; Sort: NPN; Voltage: 40V
footprint TRANS_NPN_SOT23
pins: 1 (power), 2 (power), 3 (power)

## TRANS_SS8050
designator Q?, comment SS8050
Bipolar (BJT) Transistor NPN 25 V 1.5 A 100MHz 300 mW Surface Mount SOT-23; Manufacturer: UMW; Vce MAX: 25V; Ic MAX: 1.5A; Part Number: SS8050; Package: SOT-23; ComponentLink1Description: LKCL; ComponentLink1URL: https://linhkienchatluong.vn/transistor/ss8050-y1-npn-transistor-15a-25v-sot-23_sp787_ct13107.aspx; ComponentLink2Description: DIGIKEY; ComponentLink2URL: https://www.digikey.com/en/products/detail/umw/SS8050/17635314
footprint TRANS_NPN_SOT23_SS8050
pins: 1 B, 2 E, 3 C

## TRANS_ZXTN25100BFHTA
designator Q?, comment ZXTN25100BFHTA
Bipolar (BJT) Transistor NPN 100 V 3 A 160MHz 1.25 W Surface Mount SOT-23-3; Manufacturer: DIODES INC.; Voltage: 100 V; Description SEL: TRANS NPN 100V 3A SOT23-3; Current: 3A; Part Number: ZXTN25100BFHTA; Footprint: SOT-23; ComponentLink1Description: DT360; ComponentLink1URL: https://dientu360.com/transistor-zxtn25100bfhta-npn-3a-sot23-3-1; ComponentLink2Description: DIGIKEY; ComponentLink2URL: https://www.digikey.com/en/products/detail/diodes-incorporated/ZXTN25100BFHTA/1043596?s=N4IgTCBcDaIFoA0AqA5MBWAjABmwIQDEAJJAQRAF0BfIA; Sort: NPN
footprint SOT23-3 (SOT-23; 3 Leads; Body 3.1 x 2.5 mm, inc. leads (LxW max))
pins: 1 B, 2 E, 3 C

## Transformer_2A
designator T?, comment Transformer
Transformer 2A; Vout: 3V, 6V, 9V, 12V, 15V, 18V, 24V; Vin: 110V, 220V; ComponentLink1Description: LKCL; ComponentLink1URL: https://linhkienchatluong.vn/bien-ap-thuong/bien-ap-nguon-2a-nhieu-muc-nguon-ra-3v-6v-9v-12v-15v-18v-24v_sp930_ct4979.aspx; Current: 2A
footprint Transformer_2A
pins: ?1, ?2

## USB Mini 5p SMD
designator USB?, comment 690-005-299-043
USB - mini B USB 2.0 Receptacle Connector 5 Position Surface Mount, Right Angle; Manufacturer: EDAC Inc.; Number of Contacts: 5; Part Number: 690-005-299-043; ComponentLink1Description: BLK; ComponentLink1URL: https://banlinhkien.com/miniusb-5p-smd-p6652834.html; ComponentLink2Description: DIGIKEY; ComponentLink2URL: https://www.digikey.bg/en/products/detail/edac-inc/690-005-299-043/4312191
footprint USB Mini 5P SMD
pins: 1 VBUS, 2 D-/DM, 3 D+/DP, 4 ID, 5 GND

## XTAL_ECS-80-8-33-JGN-TR3
designator X?, comment Frequence: 8MHz  (hidden comment: ECS-80-8-33-JGN-TR3)
8 MHz ±20ppm Crystal 8pF 400 Ohms 4-SMD, No Lead; Manufacturer: ECS Inc.; ComponentLink1Description: CXT; ComponentLink1URL: https://linhkien.cxtvn.com/3161-thach-anh-3225-4-chan-dan.html; Package: 3225; Part Number: ECS-80-8-33-JGN-TR3; Tolerance: ±20ppm; Load Capacitance: 8pF; ComponentLink2Description: DIGIKEY; ComponentLink2URL: https://www.digikey.com/en/products/detail/ecs-inc/ECS-80-8-33-JGN-TR3/15282974; ESR: 400 Ohms
footprint XTAL_25MHz_3225
pins: 1 XTAL, 2 GND (power), 3 XTAL, 4 GND (power)

## XTAL_ECS-120-8-33-JGN-TR
designator X?, comment Frequency: 12MHz  (hidden comment: ECS-120-8-33-JGN-TR)
CRYSTAL 12.0000MHZ 8PF SMD; Manufacturer: ECS Inc.; Tolerance: ±30ppm; Description SEL: CRYSTAL 12.0000MHZ 8PF SMD; Package: 3225; Manufacturer Part Number: ECS-120-8-33-JGN-TR; ComponentLink1Description: New link; ComponentLink1URL: https://linhkien.cxtvn.com/10283-x322512mmb4si-thach-anh-12mhz-3225-10ppm-10pf-4p.html; ComponentLink2Description: DIGIKEY; ComponentLink2URL: https://www.digikey.com/en/products/detail/ecs-inc/ECS-120-8-33-JGN-TR/8023230; Load Capacitance: 8pF
footprint ECS-120-8-33-JGN-TR_ECS
pins: 1 XTAL, 2 GND (power), 3 XTAL, 4 GND (power)

## XTAL_ECS-160-8-33-JGN-TR
designator X?, comment Frequency: 16MHz  (hidden comment: ECS-160-8-33-JGN-TR)
16 MHz ±20ppm Crystal 8pF 80 Ohms 4-SMD, No Lead; Manufacturer: ECS Inc.; ESR (Equivalent Series Resistance): 80 Ohms; ComponentLink1Description: CXT; ComponentLink1URL: https://linhkien.cxtvn.com/2023-thach-anh-3225-4-chan-dan.html; Package: 3225; ComponentLink2Description: DIGIKEY; ComponentLink2URL: https://www.digikey.com/en/products/detail/ecs-inc/ECS-160-8-33-JGN-TR/8023244?s=N4IgTCBcDaIKIGEDKBaAjANgAwoBwoGYCUApAcQDkUAVAJRAF0BfIA; Tolerance: ±20ppm; Load Capacitance: 8pF; Part Number: ECS-160-8-33-JGN-TR
footprint XTAL_25MHz_3225
pins: 1 XTAL, 2 GND (power), 3 XTAL, 4 GND (power)

## XTAL_ECS-250-8-33-JGN-TR
designator X?, comment Frequence: 25MHz  (hidden comment: ECS-250-8-33-JGN-TR)
Manufacturer: ECS Inc.; Tolerance: ±20ppm; Load Capacitance: 8pF; ESR (Equivalent Series Resistance): 40 Ohms; ComponentLink1Description: CXT; ComponentLink1URL: https://linhkien.cxtvn.com/3163-thach-anh-3225-4-chan-dan.html; Package: 3225; ComponentLink3Description: DIGIKEY; ComponentLink3URL: https://www.digikey.com/en/products/detail/ecs-inc/ECS-250-8-33-JGN-TR/8023267; Part Number: ECS-250-8-33-JGN-TR
footprint XTAL_25MHz_3225
pins: 1 XTAL, 2 GND (power), 3 XTAL, 4 GND (power)

## XTAL_ECS-480-8-33-RHN-TR
designator X?, comment Frequency: 48MHz  (hidden comment: ECS-480-8-33-RHN-TR)
48 MHz ±15ppm Crystal 8pF 40 Ohms 4-SMD, No Lead; Manufacturer: ECS Inc.; ComponentLink1Description: TGIC; ComponentLink1URL: https://www.thegioiic.com/thach-anh-48mhz-3225-4-chan-smd; Package: 3225; Part Number: ECS-480-8-33-RHN-TR; Tolerance: ±15ppm; Load Capacitance: 8pF; ComponentLink2Description: DIGIKEY; ComponentLink2URL: https://www.digikey.com/en/products/detail/ecs-inc/ECS-480-8-33-RHN-TR/8023606
footprint XTAL_25MHz_3225
pins: 1 XTAL, 2 GND (power), 3 XTAL, 4 GND (power)

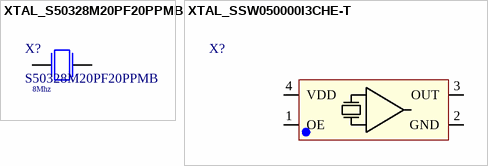
[diagram p11: symbols XTAL_S50328M20PF20PPMB to XTAL_SSW050000I3CHE-T]

## XTAL_S50328M20PF20PPMB
designator X?, comment S50328M20PF20PPMB  Frequency: 8Mhz
8MHz 20pF ±10ppm SMD5032 Crystals ROHS; Manufacturer: SST; Name: CRYSTALS 5032 8MHz; Mfr.Part #: S50328M20PF20PPMB; Package: 5032; ComponentLink1Description: BLK; ComponentLink1URL: https://banlinhkien.com/thach-anh-8mhz-smd5032-p6653646.html; Tolerance: ±10ppm; Parameter 2: *
footprint XTAL_5032
pins: 1, 2

## XTAL_SSW050000I3CHE-T
designator X?, comment SSW050000I3CHE-T  (value not drawn)
50 MHz XO (Standard) Oscillator 3.3V Enable/Disable 4-SMD, No Lead; Manufacturer: HELE(Harmony Elec); Manufacturer Part Number: HSO321S 50MHZ 3.3V 50PPM -40~+85℃; Frequency: 50 MHz; Tolerance: ±50ppm; LCSC Part Number: C160451; ComponentLink1Description: New link; ComponentLink1URL: https://www.digikey.com/en/products/detail/harmony-electronics-corp-h-ele/SSW050000I3CHE-T/14555614?s=N4IgTCBcDaIBIGUDyBmMBGBACArABgFk4AtLFAOhQDVc8AFOgrAWgBY8A-AagA4dBgQhABdAL5A; Voltage - Supply: 3.3V; Package: 3225
footprint SSW050000I3CHE-T
pins: 1 OE, 2 GND (power), 3 OUT, 4 VDD (power)